# EAGLE library part USB-C-V (library Connectors > USB)
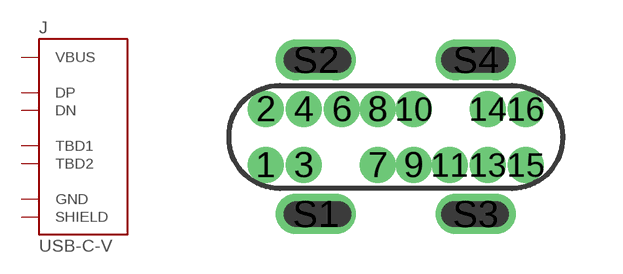
[diagram p4: symbol with the pads of USB-C-V; footprint USB-C-V]

Designator prefix J

## USB-C-VVERTICAL  [USB-C-V]
1  GND
2  GND
3  VBUS
4  VBUS
6  TBD2
7  DN
8  DP
9  DP
10  DN
11  TBD1
13  VBUS
14  VBUS
15  GND
16  GND
S1  SHIELD
S2  SHIELD
S3  SHIELD
S4  SHIELD

## Footprint USB-C-V (pad centres in mm)
drill 0.4 pad 0.6: 1 -3.25,-0.7; 2 -3.25,0.7; 3 -2.3,-0.7; 4 -2.3,0.7; 6 -1.35,0.7; 7 -0.45,-0.7; 8 -0.45,0.7; 9 0.45,-0.7; 10 0.45,0.7; 11 1.35,-0.7; 13 2.3,-0.7; 14 2.3,0.7; 15 3.25,-0.7; 16 3.25,0.7
drill 0.5 long: S1 -2,-1.93; S2 -2,1.93; S3 2,-1.93; S4 2,1.93